# EAGLE library part IC51-0644-692 (library con-yamaichi)
Series IC51 (Clamshell) Bumper Quad Flat Packages (BQFP) 64 contacts Source: http://www.yamaichi.de/pdfqfp/IC51-0644-692.pdf
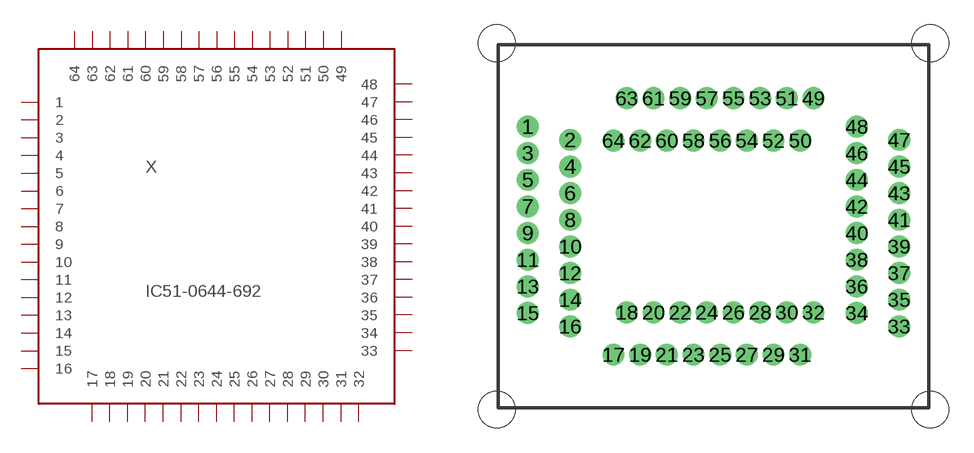
[diagram p34: symbol with the pads of IC51-0644-692; footprint IC51-0644-692]

Designator prefix X

## IC51-0644-692 (OC_FARNELL: unknown; OC_NEWARK: unknown)  [IC51-0644-692]
1  1  pas
2  2  pas
3  3  pas
4  4  pas
5  5  pas
6  6  pas
7  7  pas
8  8  pas
9  9  pas
10  10  pas
11  11  pas
12  12  pas
13  13  pas
14  14  pas
15  15  pas
16  16  pas
17  17  pas
18  18  pas
19  19  pas
20  20  pas
21  21  pas
22  22  pas
23  23  pas
24  24  pas
25  25  pas
26  26  pas
27  27  pas
28  28  pas
29  29  pas
30  30  pas
31  31  pas
32  32  pas
33  33  pas
34  34  pas
35  35  pas
36  36  pas
37  37  pas
38  38  pas
39  39  pas
40  40  pas
41  41  pas
42  42  pas
43  43  pas
44  44  pas
45  45  pas
46  46  pas
47  47  pas
48  48  pas
49  49  pas
50  50  pas
51  51  pas
52  52  pas
53  53  pas
54  54  pas
55  55  pas
56  56  pas
57  57  pas
58  58  pas
59  59  pas
60  60  pas
61  61  pas
62  62  pas
63  63  pas
64  64  pas

## Footprint IC51-0644-692 (pad centres in mm)
Series IC51 (Clamshell) Bumper Quad Flat Packages (BQFP) 64 contacts Source: http://www.yamaichi.de/pdfqfp/IC51-0644-692.pdf
drill 0.8 pad 1.27: 1 -11.14,6; 2 -8.6,5.2; 3 -11.14,4.4; 4 -8.6,3.6; 5 -11.14,2.8; 6 -8.6,2; 7 -11.14,1.2; 8 -8.6,0.4; 9 -11.14,-0.4; 10 -8.6,-1.2; 11 -11.14,-2; 12 -8.6,-2.8; 13 -11.14,-3.6; 14 -8.6,-4.4; 15 -11.14,-5.2; 16 -8.6,-6; 17 -6,-7.7; 18 -5.2,-5.16; 19 -4.4,-7.7; 20 -3.6,-5.16; 21 -2.8,-7.7; 22 -2,-5.16; 23 -1.2,-7.7; 24 -0.4,-5.16; 25 0.4,-7.7; 26 1.2,-5.16; 27 2,-7.7; 28 2.8,-5.16; 29 3.6,-7.7; 30 4.4,-5.16; 31 5.2,-7.7; 32 6,-5.16; 33 11.14,-6; 34 8.6,-5.2; 35 11.14,-4.4; 36 8.6,-3.6; 37 11.14,-2.8; 38 8.6,-2; 39 11.14,-1.2; 40 8.6,-0.4; 41 11.14,0.4; 42 8.6,1.2; 43 11.14,2; 44 8.6,2.8; 45 11.14,3.6; 46 8.6,4.4; 47 11.14,5.2; 48 8.6,6; 49 6,7.7; 50 5.2,5.16; 51 4.4,7.7; 52 3.6,5.16; 53 2.8,7.7; 54 2,5.16; 55 1.2,7.7; 56 0.4,5.16; 57 -0.4,7.7; 58 -1.2,5.16; 59 -2,7.7; 60 -2.8,5.16; 61 -3.6,7.7; 62 -4.4,5.16; 63 -5.2,7.7; 64 -6,5.16
hole 2.2 at -13,11
hole 2.2 at 13,11
hole 2.2 at -13,-11
hole 2.2 at 13,-11